# Altium footprint library PcbLib1.PcbLib: 329 footprints (part 5 of 21)
Each footprint in its own frame and in the unit in brackets; x right, y up, seen from the top. Pads: shape width x height; smd on the part's side, far side on the other; paste and mask are expansions set on the pad; w line width, h text height; cw(c..) or ccw(c..) is an arc to the next point about the centre after c.
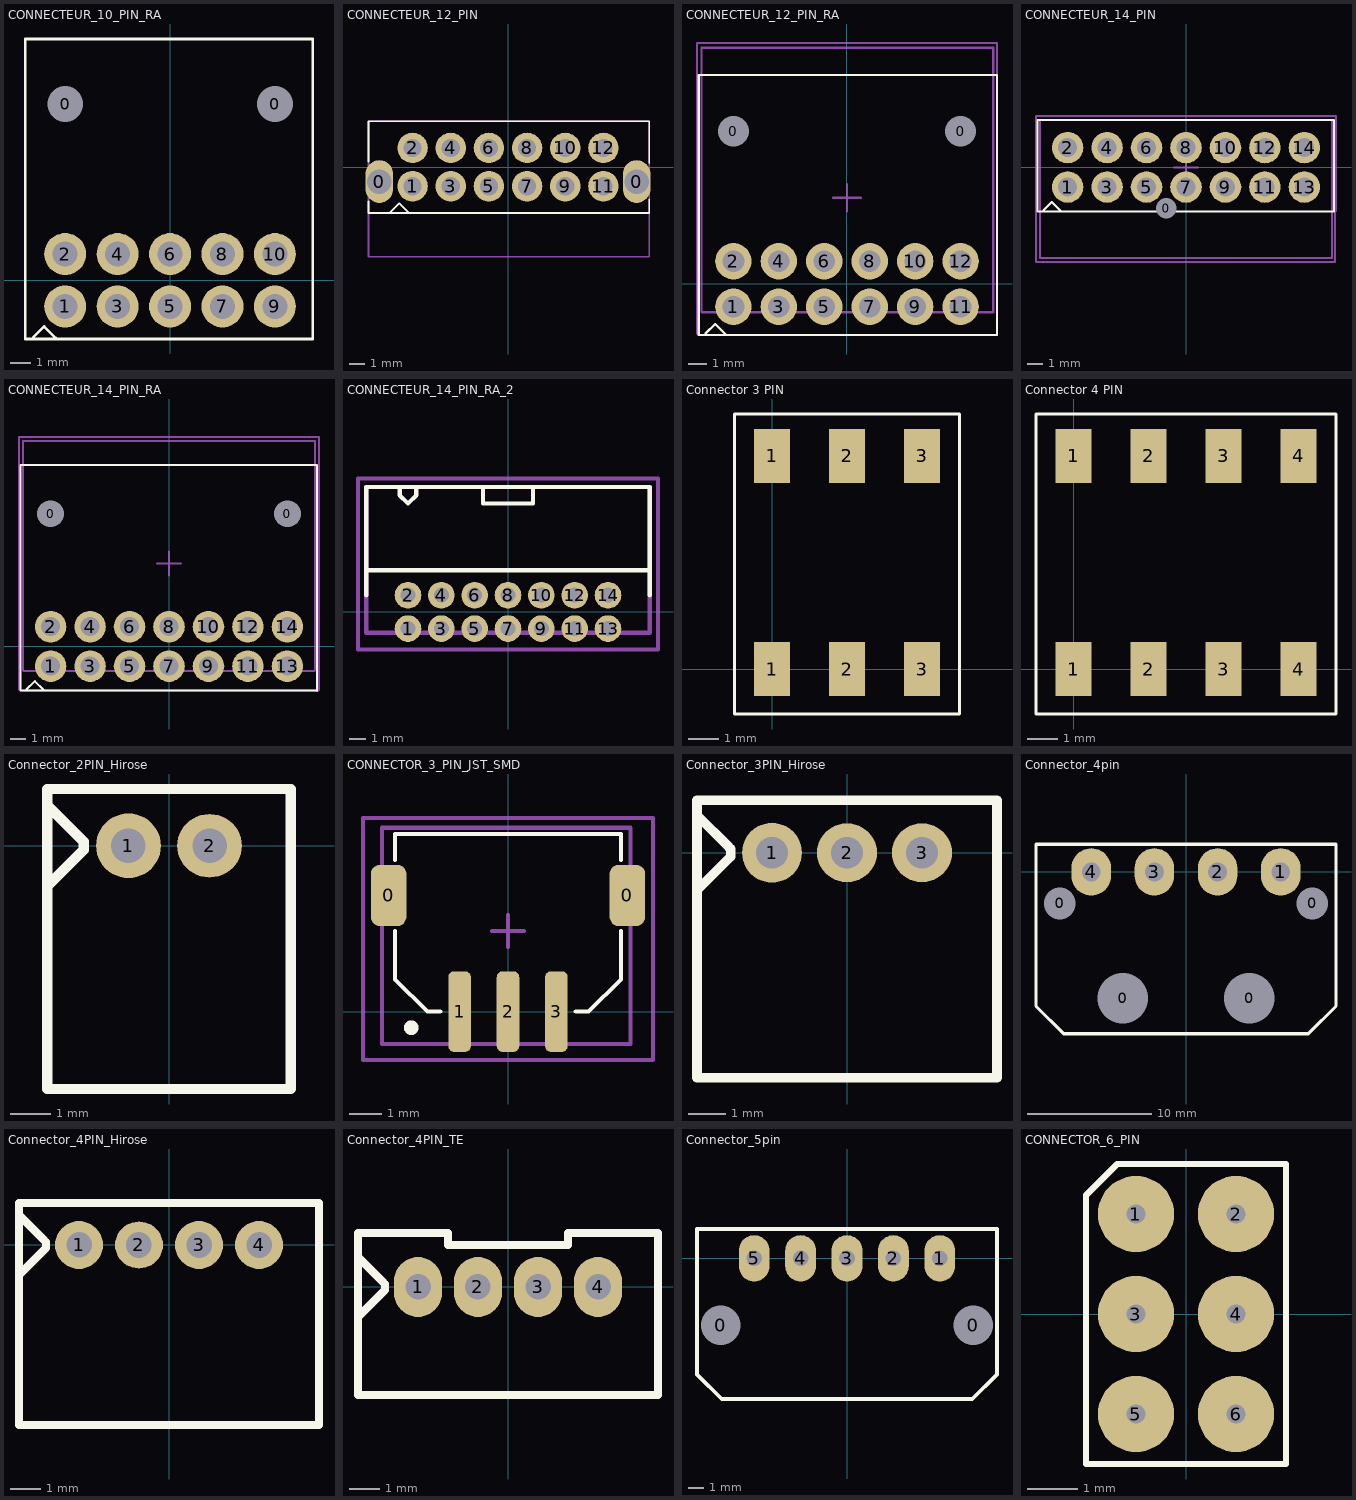
[diagram p4: the footprints below, top view; thin cyan lines are the x and y axes]

## CONNECTEUR_10_PIN_RA [mm] "MOLEX NANO FIT"
pads (12):
  round 1 hole 1.7: 0(-5,8.4) 0(5,8.4)
  round 2 hole 1.2: 1(-5,-1.25) 2(-5,1.25) 3(-2.5,-1.25) 4(-2.5,1.25) 5(0,-1.25) 6(0,1.25) 7(2.5,-1.25) 8(2.5,1.25) 9(5,-1.25) 10(5,1.25)
Top Overlay:
  lines w0.127: -6.525,-2.725 -6,-2.2 -5.45,-2.75 ; -6.9,-2.8 6.8,-2.8 6.8,-1.568 6.8,1.346 6.8,11.5 -6.9,11.5 -6.9,-1.568 -6.9,-2.8
3D body "1053141210.stp": height 9.25, standoff -3.09, extent -6.72,-1.568 6.72,13.09

## CONNECTEUR_12_PIN [mm] "MOLEX NANO FIT"
pads (14):
  oval 1.8x2.8 hole 1.6: 0(-8.425,-0.95) 0(8.425,-0.95)
  round 2 hole 1.2: 1(-6.25,-1.25) 2(-6.25,1.25) 3(-3.75,-1.25) 4(-3.75,1.25) 5(-1.25,-1.25) 6(-1.25,1.25) 7(1.25,-1.25) 8(1.25,1.25) 9(3.75,-1.25) 10(3.75,1.25) 11(6.25,-1.25) 12(6.25,1.25)
Top Overlay:
  lines w0.127: -9.125,-2.25 -9.125,-3 9.25,-3 9.25,-2.125 ; -9.125,0.375 -9.125,3 9.25,3 9.25,0.25 ; -7.75,-3 -7.125,-2.375 -6.5,-3
Mechanical 13:
  lines w0.127: -9.125,-5.875 9.25,-5.875 9.25,3 -9.125,3 -9.125,-5.875
3D body "1053121212.stp": height 10.49, standoff -3.23, extent -9.07,-5.82 9.15,3.02

## CONNECTEUR_12_PIN_RA [mm] "MOLEX NANO FIT"
pads (14):
  round 1 hole 1.7: 0(-6.25,8.4) 0(6.25,8.4)
  round 2 hole 1.2: 1(-6.25,-1.25) 2(-6.25,1.25) 3(-3.75,-1.25) 4(-3.75,1.25) 5(-1.25,-1.25) 6(-1.25,1.25) 7(1.25,-1.25) 8(1.25,1.25) 9(3.75,-1.25) 10(3.75,1.25) 11(6.25,-1.25) 12(6.25,1.25)
Top Overlay:
  lines w0.127: -7.775,-2.725 -7.25,-2.2 -6.7,-2.75 ; -8.15,-2.8 -8.15,-1.568 -8.15,11.5 8.25,11.5 8.25,-2.8 -8.15,-2.8
Mechanical 13:
  lines w0.127: -8,-1.519 -8,13 8.05,13 8.05,0.871 8.04,0.861 8.04,-1.547 -7.971,-1.547 -8,-1.519
Mechanical 15:
  lines w0.127: -0.75,4.75 0.75,4.75 ; 0,4 0,5.5 ; -8.25,-2.7 -8.25,13.25 8.25,13.25 8.25,-2.8 -8.15,-2.8 -8.25,-2.7
3D body "1053141212.stp": height 9.1, standoff -3.24, extent -7.92,-1.567 8.02,13.09

## CONNECTEUR_14_PIN [mm] "MOLEX NANO FIT"
pads (15):
  round 1 hole 1.3: 0(-1.25,-2.59)
  round 2 hole 1.2: 1(-7.5,-1.25) 2(-7.5,1.25) 3(-5,-1.25) 4(-5,1.25) 5(-2.5,-1.25) 6(-2.5,1.25) 7(0,-1.25) 8(0,1.25) 9(2.5,-1.25) 10(2.5,1.25) 11(5,-1.25) 12(5,1.25) 13(7.5,-1.25) 14(7.5,1.25)
Top Overlay:
  lines w0.127: -9.025,-2.725 -8.5,-2.2 -7.95,-2.75 ; 7.5,-0.604 8.146,-0.604 ; 9.375,-2.812 9.375,3 -9.4,3 -9.4,-1.568 -9.4,-2.8 9.375,-2.8
Mechanical 13:
  lines w0.127: -9.25,-5.75 9.25,-5.75 9.25,3 -9.25,3 -9.25,-5.75
Mechanical 15:
  lines w0.127: -0.75,0 0.75,0 ; 0,-0.75 0,0.75 ; -9.5,-6 9.45,-6 9.45,-2.8 9.5,-2.75 9.5,3.25 -9.5,3.25 -9.5,-6
3D body "1053101214.stp": height 10.58, standoff -3.13, extent -9.22,-5.85 9.22,2.99

## CONNECTEUR_14_PIN_RA [mm] "MOLEX NANO FIT"
pads (16):
  round 1 hole 1.7: 0(-7.5,8.4) 0(7.5,8.4)
  round 2 hole 1.2: 1(-7.5,-1.25) 2(-7.5,1.25) 3(-5,-1.25) 4(-5,1.25) 5(-2.5,-1.25) 6(-2.5,1.25) 7(0,-1.25) 8(0,1.25) 9(2.5,-1.25) 10(2.5,1.25) 11(5,-1.25) 12(5,1.25) 13(7.5,-1.25) 14(7.5,1.25)
Top Overlay:
  lines w0.127: -9.025,-2.725 -8.5,-2.2 -7.95,-2.75 ; 7.5,-0.604 8.146,-0.604 ; 9.375,-2.812 9.375,11.5 -9.4,11.5 -9.4,-1.568 -9.4,-2.8 9.375,-2.8
Mechanical 13:
  lines w0.127: -9.25,-1.519 -9.221,-1.547 9.219,-1.547 9.25,-1.516 9.25,13 -9.25,13 -9.25,-1.519
Mechanical 15:
  lines w0.127: -0.75,5.25 0.75,5.25 ; 0,6 0,4.5 ; 0,4.5 0,4.5 ; -9.5,-2.7 -9.4,-2.8 9.375,-2.8 9.45,-2.8 9.5,-2.75 9.5,13.25 -9.5,13.25 -9.5,-2.7
3D body "1053141214.stp": height 9.25, standoff -3.09, extent -9.221,-1.547 9.219,13.11

## CONNECTEUR_14_PIN_RA_2 [mm] "MOLEX milli-grid"
pads (14):
  round 1.6 hole 0.9: 1(-6,-1) 2(-6,1) 3(-4,-1) 4(-4,1) 5(-2,-1) 6(-2,1) 7(0,-1) 8(0,1) 9(2,-1) 10(2,1) 11(4,-1) 12(4,1) 13(6,-1) 14(6,1)
Top Overlay:
  lines w0.254: -8.5,1 -8.5,7.5 -7.5,7.5 8.5,7.5 8.5,1 ; -8.5,2.5 -7.5,2.5 8.5,2.5 ; -6.5,7.5 -6.5,7 -6,6.5 -5.5,7 -5.5,7.5 ; -1.5,7.5 -1.5,6.5 1.5,6.5 1.5,7.5
Mechanical 13:
  lines w0.254: -8.5,-1.25 8.5,-1.25 8.5,7.5 -8.5,7.5 -8.5,-1.25
Mechanical 15:
  lines w0.254: -9,-2.25 -9,8 9,8 9,-2.25 -9,-2.25
3D body "878331419.stp": height 6.3, standoff -2.16, extent -8.325,-1.2 8.325,7.45

## Connector 3 PIN [mm] "Screwless - Leg Spring, Push-In Spring"
pads (6):
  rect 1.2x1.8 smd: 1(0,0) 1(0,7.1) 2(2.5,0) 2(2.5,7.1) 3(5,0) 3(5,7.1)
Top Overlay:
  lines w0.1: -1.25,-1.5 6.25,-1.5 6.25,8.5 -1.25,8.5 -1.25,-1.5

## Connector 4 PIN [mm] "Screwless - Leg Spring, Push-In Spring"
pads (8):
  rect 1.2x1.8 smd: 1(0,0) 1(0,7.1) 2(2.5,0) 2(2.5,7.1) 3(5,0) 3(5,7.1) 4(7.5,0) 4(7.5,7.1)
Top Overlay:
  lines w0.1: -1.25,-1.5 8.75,-1.5 8.75,8.5 -1.25,8.5 -1.25,-1.5

## Connector_2PIN_Hirose [mm] "CONN HEADER 2POS 2MM RT ANG TIN"
height 5
pads (2):
  round 1.6 hole 0.85: 1(-1,0)
  oval 1.6x1.56 hole 0.85: 2(1,0)
Top Overlay:
  lines w0.254: -3,-1 -2.1,-0.1 -2.1,0.1 ; -3,1 -2.15,0.15 ; -3,-6 3,-6 3,1.4 -3,1.4 -3,-6
3D body "D3F-2P_2DS.STEP": height 5.2, standoff -2.7, extent -3,-5.8 3,1.4

## CONNECTOR_3_PIN_JST_SMD [mm]
pads (5):
  rrect50% 1.1x1.9 smd: 0(-3.7,3.6) 0(3.7,3.6)
  rrect50% 0.7x2.5 smd: 1(-1.5,0) 2(0,0) 3(1.5,0)
Top Overlay:
  circle w0.254: c-3,-0.5 r0.1
  lines w0.127: -3.5,2.5 -3.5,1 -2.5,0 -2.1,0 ; -3.5,4.7 -3.5,5.5 3.5,5.5 3.5,4.7 ; 2.1,0 2.5,0 3.5,1 3.5,2.5
Mechanical 13:
  lines w0.127: -3.9,-1 -3.9,5.7 3.8,5.7 3.8,-1 -3.9,-1
Mechanical 15:
  lines w0.127: -0.5,2.5 0.5,2.5 ; 0,2 0,3 ; -4.5,-1.5 -4.5,6 4.5,6 4.5,-1.5 -4.5,-1.5
3D body "S3B-ZR-SM4A-TF.STEP": height 3.65, standoff -0.05, extent -3.75,-0.9 3.75,5.6

## Connector_3PIN_Hirose [mm] "CONN HEADER 3POS 2MM RT ANG TIN"
height 5
pads (3):
  round 1.6 hole 0.85: 1(-2,0)
  oval 1.6x1.56 hole 0.85: 2(0,0) 3(2,0)
Top Overlay:
  lines w0.254: -4,-1 -3.1,-0.1 -3.1,0.1 ; -4,1 -3.15,0.15 ; -4,-6 4,-6 4,1.4 -4,1.4 -4,-6
3D body "DF3-3P-2DS.STEP": height 5.1, standoff -2.8, extent -4,-5.7 4,1.5

## Connector_4pin [mil] "CONN HEADER 4POS COMPUTER POWER"
height 172.05
pads (8):
  round 60 hole 100: 0(-400,-100) 0(400,-100)
  round 60 hole 160: 0(-200,-400) 0(200,-400)
  oval 125x150 hole 60: 1(300,0) 2(100,0) 3(-100,0) 4(-300,0)
Top Overlay:
  lines w10: -475,-425 -475,87.5 475,87.5 475,-425 387.5,-512.5 -387.5,-512.5 -475,-425
3D body "Molex_4PIN_V2.STEP": height 338, standoff -147, extent -457.99,-511.49 458.01,22.51

## Connector_4PIN_Hirose [mm] "CONN HEADER 4POS 2MM RT ANG TIN"
height 5
pads (4):
  round 1.6 hole 0.85: 1(-3,0) 3(1,0) 4(3,0)
  oval 1.6x1.56 hole 0.85: 2(-1,0)
Top Overlay:
  lines w0.254: -5,-1 -4.1,-0.1 -4.1,0.1 ; -5,1 -4.15,0.15 ; -5,-6 -5,1.4 5,1.4 5,-6 -5,-6
3D body "DF3-4P-2DS.STEP": height 5.1, standoff -2.8, extent -5,-5.7 5,1.5

## Connector_4PIN_TE [mm] "CONN HEADER 4POS"
height 5
pads (4):
  oval 1.6x2 hole 0.85: 1(-3,0) 2(-1,0) 3(1,0) 4(3,0)
Top Overlay:
  lines w0.254: -5,-1 -4.1,-0.1 -4.1,0.1 ; -5,1 -4.15,0.15 ; -5,-3.6 -5,1.8 -2,1.8 -2,1.4 2,1.4 2,1.8 5,1.8 5,-3.6 -5,-3.6

## Connector_5pin [mm] "CONN HEADER 5POS R/A W/CLIP TIN"
height 4.37
pads (7):
  round 1.524 hole 2.54: 0(-8.16,-4.32) 0(8.16,-4.32)
  oval 2x3 hole 1.016: 1(6,0) 2(3,0) 3(0,0) 4(-3,0) 5(-6,0)
Top Overlay:
  lines w0.254: -9.7,-7.5 -8.1,-9.1 8.1,-9.1 9.7,-7.5 9.7,1.9 -9.7,1.9 -9.7,-7.5
3D body "MOLEX_5_pin.STEP": height 5.64, standoff -3.15, extent -9.32,-8.95 9.32,0.95

## CONNECTOR_6_PIN [mil] "POGO_PIN"
pads (6):
  round 60 smd: 1(-39.37,78.74) 2(39.37,78.74) 3(-39.37,0) 4(39.37,0) 5(-39.37,-78.74) 6(39.37,-78.74)
via -39.37,0 diameter 28 hole 15
via -39.37,-78.74 diameter 28 hole 15
via 39.37,-78.74 diameter 28 hole 15
via 39.37,0 diameter 28 hole 15
via 39.37,78.74 diameter 28 hole 15
via -39.37,78.74 diameter 28 hole 15
Top Overlay:
  lines w5: -78.74,-118.11 78.74,-118.11 78.74,118.11 -54.13,118.11 -78.74,93.5 -78.74,-118.11